# EAGLE library part ESP8266_DEV_NODEMCU_AMICA (library capstone_polly)
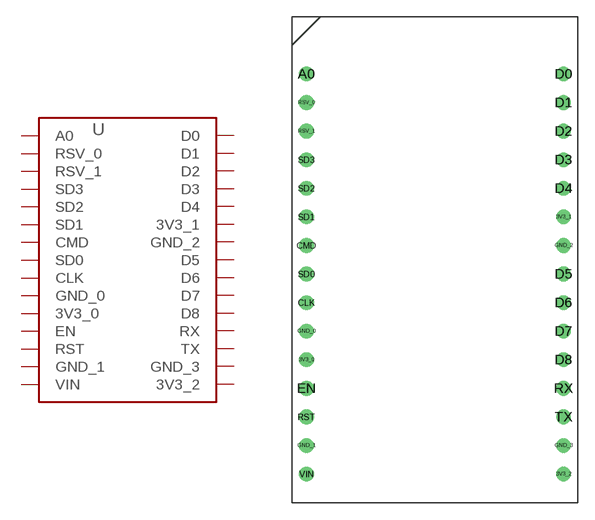
[diagram p0: symbol with the pads of ESP*266_DEV; footprint ESP*266_DEV]

Designator prefix -

## ESP8266_DEV_NODEMCU_AMICA  [ESP*266_DEV]
3V3_0  3V3_0
3V3_1  3V3_1
3V3_2  3V3_2
A0  A0
CLK  CLK
CMD  CMD
D0  D0
D1  D1
D2  D2
D3  D3
D4  D4
D5  D5
D6  D6
D7  D7
D8  D8
EN  EN
GND_0  GND_0
GND_1  GND_1
GND_2  GND_2
GND_3  GND_3
RST  RST
RSV_0  RSV_0
RSV_1  RSV_1
RX  RX
SD0  SD0
SD1  SD1
SD2  SD2
SD3  SD3
TX  TX
VIN  VIN

## Footprint ESP*266_DEV (pad centres in mm)
drill 0.8: 3V3_0 -11.43,-8.89; 3V3_1 11.43,3.81; 3V3_2 11.43,-19.05; A0 -11.43,16.51; CLK -11.43,-3.81; CMD -11.43,1.27; D0 11.43,16.51; D1 11.43,13.97; D2 11.43,11.43; D3 11.43,8.89; D4 11.43,6.35; D5 11.43,-1.27; D6 11.43,-3.81; D7 11.43,-6.35; D8 11.43,-8.89; EN -11.43,-11.43; GND_0 -11.43,-6.35; GND_1 -11.43,-16.51; GND_2 11.43,1.27; GND_3 11.43,-16.51; RST -11.43,-13.97; RSV_0 -11.43,13.97; RSV_1 -11.43,11.43; RX 11.43,-11.43; SD0 -11.43,-1.27; SD1 -11.43,3.81; SD2 -11.43,6.35; SD3 -11.43,8.89; TX 11.43,-13.97; VIN -11.43,-19.05